# EAGLE library part TDK_LAMBDA_5_TO_BI_12_125MA (library PulsePalSMT_Rev_0_5)
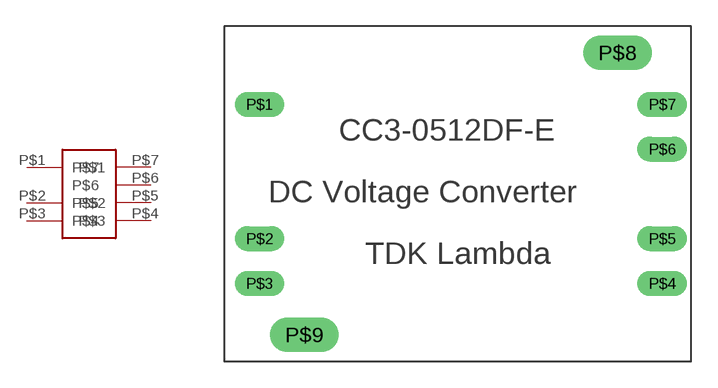
[diagram p2: symbol with the pads of TDK_LAMBDA_5_TO_BI_12_125MA; footprint TDK_LAMBDA_5_TO_BI_12_125MA]

Designator prefix -

## TDK_LAMBDA_5_TO_BI_12_125MA  [TDK_LAMBDA_5_TO_BI_12_125MA]
P$1  P$1
P$2  P$2
P$3  P$3
P$4  P$4
P$5  P$5
P$6  P$6
P$7  P$7

## Footprint TDK_LAMBDA_5_TO_BI_12_125MA (pad centres in mm)
drill 0.9 long: P$1 0,-2.92; P$2 0,-10.54; P$3 0,-13.08; P$4 22.86,-13.08; P$5 22.86,-10.54; P$6 22.86,-5.46; P$7 22.86,-2.92
drill 1.3 long: P$8 20.32,0; P$9 2.54,-16